# Altium integrated library TI Power Management Switching Regulator Charge Pump (Inductorless).IntLib: 239 symbols (part 13 of 14)
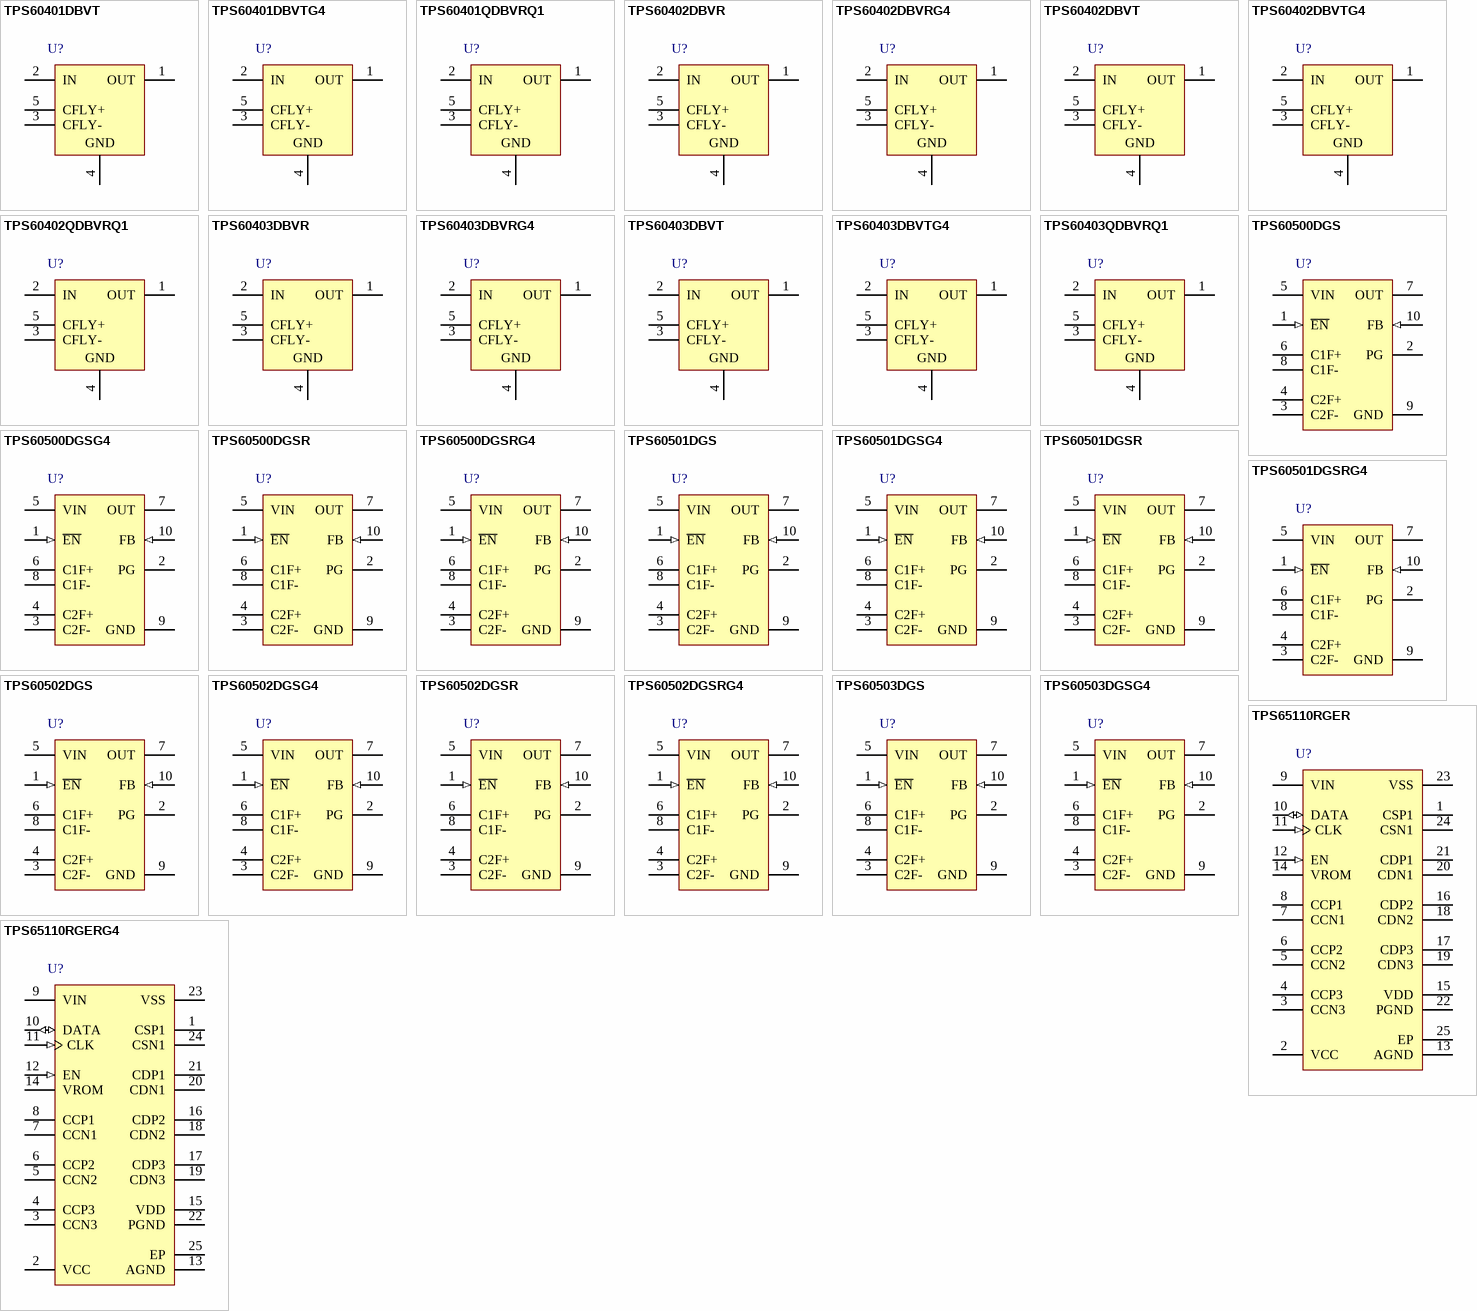
[diagram p19: symbols TPS60401DBVT to TPS65110RGERG4]

## TPS60402DBVT
designator U?
-1.8 to -5.25 V, Inverting Charge Pump Regulator, 60 mA, 1.8 to 5.25 V Input with 2-Cell Alkaline / Nixx Input, -40 to 85 degC, 5-pin SOT23 (DBV5), Green (RoHS & no Sb/Br); Manufacturer: Texas Instruments; PartNumber: TPS60402DBVT; 2-Cell Alkaline/Nixx Input: TRUE; Efficiency(Typ)(%): 99; Iout(Max)(A): 0.06; Iq(Typ)(mA): 0.12; Switching Frequency(Max)(kHz): 70; Topology: Inverting Buck/Boost; Vin(Max)(V): 5.25; Vin(Min)(V): 1.8; DatasheetVersion: SLVS324A; PackageVersion: 4073253-4/K; PackageReference: DBV5; PackageDescription: 5-Pin Plastic Small Outline, Body 1.60 × 2.90 mm, Pitch 0.95 mm; Supplier 1: Digi-Key; Supplier Part Number 1: 296-12015-2-ND; Supplier 2: Digi-Key; Supplier Part Number 2: 296-12015-1-ND; Supplier 3: Digi-Key; Supplier Part Number 3: 296-12015-6-ND; Supplier 4: Farnell; Supplier Part Number 4: 8457778; Supplier 5: Farnell; Supplier Part Number 5: 8457778RL; Supplier 6: Newark; Supplier Part Number 6: 77C0630; Supplier 7: Mouser; Supplier Part Number 7: 595-TPS60402DBVT; Eco-Plan: Green (RoHS & no Sb/Br); Vout(Max)(V): -5.25; Vout(Min)(V): -1.8; Mounting Technology: Surface Mount; Code_JEDEC: MO-178; ComponentLink1Description: Manufacturer URL; ComponentLink1URL: http://www.ti.com/; ComponentLink2Description: Datasheet; ComponentLink2URL: http://www.ti.com/general/docs/lit/getliterature.tsp?genericPartNumber=TPS60402&fileType=pdf; ComponentLink3Description: Package Specification; ComponentLink3URL: http://www.ti.com/litv/pdf/mpds018i
footprint TI-DBV5_N (SOT23, 5-Leads, Body 2.9x1.6mm, Pitch 0.95mm, IPC Medium Density)
footprint TI-DBV5_L (SOT23, 5-Leads, Body 2.9x1.6mm, Pitch 0.95mm, IPC High Density)
footprint TI-DBV5_M (SOT23, 5-Leads, Body 2.9x1.6mm, Pitch 0.95mm, IPC Low Density)
pins: 1 OUT (power) "Power output with VO = -VI Bypass OUT to GND with the output filter capacitor CO", 2 IN (power) "Supply input. Connect to an input supply in the 1.6-V to 5.5-V range. Bypass IN to GND with a capacitor that has the same value as the flying capacitor", 3 CFLY- "Negative terminal of the flying capacitor C(fly)", 4 GND (power) "Ground", 5 CFLY+ "Positive terminal of the flying capacitor C(fly)"

## TPS60402DBVTG4
designator U?
-1.8 to -5.25 V, Inverting Charge Pump Regulator, 60 mA, 1.8 to 5.25 V Input with 2-Cell Alkaline / Nixx Input, -40 to 85 degC, 5-pin SOT23 (DBV5), Green (RoHS & no Sb/Br); Manufacturer: Texas Instruments; PartNumber: TPS60402DBVTG4; 2-Cell Alkaline/Nixx Input: TRUE; Efficiency(Typ)(%): 99; Iout(Max)(A): 0.06; Iq(Typ)(mA): 0.12; Switching Frequency(Max)(kHz): 70; Topology: Inverting Buck/Boost; Vin(Max)(V): 5.25; Vin(Min)(V): 1.8; DatasheetVersion: SLVS324A; PackageVersion: 4073253-4/K; PackageReference: DBV5; PackageDescription: 5-Pin Plastic Small Outline, Body 1.60 × 2.90 mm, Pitch 0.95 mm; Supplier 1: Digi-Key; Supplier Part Number 1: TPS60402DBVTG4-ND; Supplier 2: Newark; Supplier Part Number 2: 54K1707; Supplier 3: Mouser; Supplier Part Number 3: 595-TPS60402DBVTG4; Eco-Plan: Green (RoHS & no Sb/Br); Vout(Max)(V): -5.25; Vout(Min)(V): -1.8; Mounting Technology: Surface Mount; Code_JEDEC: MO-178; ComponentLink1Description: Manufacturer URL; ComponentLink1URL: http://www.ti.com/; ComponentLink2Description: Datasheet; ComponentLink2URL: http://www.ti.com/general/docs/lit/getliterature.tsp?genericPartNumber=TPS60402&fileType=pdf; ComponentLink3Description: Package Specification; ComponentLink3URL: http://www.ti.com/litv/pdf/mpds018i
footprint TI-DBV5_N (SOT23, 5-Leads, Body 2.9x1.6mm, Pitch 0.95mm, IPC Medium Density)
footprint TI-DBV5_L (SOT23, 5-Leads, Body 2.9x1.6mm, Pitch 0.95mm, IPC High Density)
footprint TI-DBV5_M (SOT23, 5-Leads, Body 2.9x1.6mm, Pitch 0.95mm, IPC Low Density)
pins: 1 OUT (power) "Power output with VO = -VI Bypass OUT to GND with the output filter capacitor CO", 2 IN (power) "Supply input. Connect to an input supply in the 1.6-V to 5.5-V range. Bypass IN to GND with a capacitor that has the same value as the flying capacitor", 3 CFLY- "Negative terminal of the flying capacitor C(fly)", 4 GND (power) "Ground", 5 CFLY+ "Positive terminal of the flying capacitor C(fly)"

## TPS60402QDBVRQ1
designator U?
-1.8 to -5.25 V, Inverting Charge Pump Regulator, 60 mA, 1.8 to 5.25 V Input, -40 to 125 degC, 5-pin SOT23 (DBV5), Green (RoHS & no Sb/Br); Manufacturer: Texas Instruments; PartNumber: TPS60402QDBVRQ1; Efficiency(Typ)(%): >90; Iout(Max)(A): 0.06; Iq(Typ)(mA): 0.12; Switching Frequency(Max)(kHz): 75; Topology: Inverting Buck/Boost; Vin(Max)(V): 5.25; Vin(Min)(V): 1.8; DatasheetVersion: SGLS246A; PackageVersion: 4073253-4/K; PackageReference: DBV5; PackageDescription: 5-Pin Plastic Small Outline, Body 1.60 × 2.90 mm, Pitch 0.95 mm; Supplier 1: Digi-Key; Supplier Part Number 1: TPS60402QDBVRQ1-ND; Supplier 2: Newark; Supplier Part Number 2: 21J9229; Supplier 3: Mouser; Supplier Part Number 3: 595-TPS60402QDBVRQ1; Eco-Plan: Green (RoHS & no Sb/Br); Vout(Max)(V): -5.25; Vout(Min)(V): -1.8; Mounting Technology: Surface Mount; Code_JEDEC: MO-178; ComponentLink1Description: Manufacturer URL; ComponentLink1URL: http://www.ti.com/; ComponentLink2Description: Datasheet; ComponentLink2URL: http://www.ti.com/general/docs/lit/getliterature.tsp?genericPartNumber=TPS60402-Q1&fileType=pdf; ComponentLink3Description: Package Specification; ComponentLink3URL: http://www.ti.com/litv/pdf/mpds018i
footprint TI-DBV5_N (SOT23, 5-Leads, Body 2.9x1.6mm, Pitch 0.95mm, IPC Medium Density)
footprint TI-DBV5_L (SOT23, 5-Leads, Body 2.9x1.6mm, Pitch 0.95mm, IPC High Density)
footprint TI-DBV5_M (SOT23, 5-Leads, Body 2.9x1.6mm, Pitch 0.95mm, IPC Low Density)
pins: 1 OUT (power) "Power output with VO = -VI Bypass OUT to GND with the output filter capacitor CO.", 2 IN (power) "Supply input. Connect to an input supply in the 1.6-V to 5.5-V range. Bypass IN to GND with a capacitor that has the same value as the flying capacitor.", 3 CFLY- "Negative terminal of the flying capacitor C(fly)", 4 GND (power) "Ground", 5 CFLY+ "Positive terminal of the flying capacitor C(fly)"

## TPS60403DBVR
designator U?
-1.8 to -5.25 V, Inverting Charge Pump Regulator, 60 mA, 1.8 to 5.25 V Input with 2-Cell Alkaline / Nixx Input, -40 to 85 degC, 5-pin SOT23 (DBV5), Green (RoHS & no Sb/Br); Manufacturer: Texas Instruments; PartNumber: TPS60403DBVR; 2-Cell Alkaline/Nixx Input: TRUE; Efficiency(Typ)(%): 99; Iout(Max)(A): 0.06; Iq(Typ)(mA): 0.425; Switching Frequency(Max)(kHz): 300; Topology: Inverting Buck/Boost; Vin(Max)(V): 5.25; Vin(Min)(V): 1.8; DatasheetVersion: SLVS324A; PackageVersion: 4073253-4/K; PackageReference: DBV5; PackageDescription: 5-Pin Plastic Small Outline, Body 1.60 × 2.90 mm, Pitch 0.95 mm; Supplier 1: Digi-Key; Supplier Part Number 1: 296-27005-2-ND; Supplier 2: Digi-Key; Supplier Part Number 2: 296-27005-1-ND; Supplier 3: Digi-Key; Supplier Part Number 3: 296-27005-6-ND; Supplier 4: Newark; Supplier Part Number 4: 77C0631; Supplier 5: Mouser; Supplier Part Number 5: 595-TPS60403DBVR; Eco-Plan: Green (RoHS & no Sb/Br); Vout(Max)(V): -5.25; Vout(Min)(V): -1.8; Mounting Technology: Surface Mount; Code_JEDEC: MO-178; ComponentLink1Description: Manufacturer URL; ComponentLink1URL: http://www.ti.com/; ComponentLink2Description: Datasheet; ComponentLink2URL: http://www.ti.com/general/docs/lit/getliterature.tsp?genericPartNumber=TPS60403&fileType=pdf; ComponentLink3Description: Package Specification; ComponentLink3URL: http://www.ti.com/litv/pdf/mpds018i
footprint TI-DBV5_N (SOT23, 5-Leads, Body 2.9x1.6mm, Pitch 0.95mm, IPC Medium Density)
footprint TI-DBV5_L (SOT23, 5-Leads, Body 2.9x1.6mm, Pitch 0.95mm, IPC High Density)
footprint TI-DBV5_M (SOT23, 5-Leads, Body 2.9x1.6mm, Pitch 0.95mm, IPC Low Density)
pins: 1 OUT (power) "Power output with VO = -VI Bypass OUT to GND with the output filter capacitor CO", 2 IN (power) "Supply input. Connect to an input supply in the 1.6-V to 5.5-V range. Bypass IN to GND with a capacitor that has the same value as the flying capacitor", 3 CFLY- "Negative terminal of the flying capacitor C(fly)", 4 GND (power) "Ground", 5 CFLY+ "Positive terminal of the flying capacitor C(fly)"

## TPS60403DBVRG4
designator U?
-1.8 to -5.25 V, Inverting Charge Pump Regulator, 60 mA, 1.8 to 5.25 V Input with 2-Cell Alkaline / Nixx Input, -40 to 85 degC, 5-pin SOT23 (DBV5), Green (RoHS & no Sb/Br); Manufacturer: Texas Instruments; PartNumber: TPS60403DBVRG4; 2-Cell Alkaline/Nixx Input: TRUE; Efficiency(Typ)(%): 99; Iout(Max)(A): 0.06; Iq(Typ)(mA): 0.425; Switching Frequency(Max)(kHz): 300; Topology: Inverting Buck/Boost; Vin(Max)(V): 5.25; Vin(Min)(V): 1.8; DatasheetVersion: SLVS324A; PackageVersion: 4073253-4/K; PackageReference: DBV5; PackageDescription: 5-Pin Plastic Small Outline, Body 1.60 × 2.90 mm, Pitch 0.95 mm; Supplier 1: Digi-Key; Supplier Part Number 1: TPS60403DBVRG4-ND; Supplier 2: Newark; Supplier Part Number 2: 71J8175; Supplier 3: Mouser; Supplier Part Number 3: 595-TPS60403DBVRG4; Eco-Plan: Green (RoHS & no Sb/Br); Vout(Max)(V): -5.25; Vout(Min)(V): -1.8; Mounting Technology: Surface Mount; Code_JEDEC: MO-178; ComponentLink1Description: Manufacturer URL; ComponentLink1URL: http://www.ti.com/; ComponentLink2Description: Datasheet; ComponentLink2URL: http://www.ti.com/general/docs/lit/getliterature.tsp?genericPartNumber=TPS60403&fileType=pdf; ComponentLink3Description: Package Specification; ComponentLink3URL: http://www.ti.com/litv/pdf/mpds018i
footprint TI-DBV5_N (SOT23, 5-Leads, Body 2.9x1.6mm, Pitch 0.95mm, IPC Medium Density)
footprint TI-DBV5_L (SOT23, 5-Leads, Body 2.9x1.6mm, Pitch 0.95mm, IPC High Density)
footprint TI-DBV5_M (SOT23, 5-Leads, Body 2.9x1.6mm, Pitch 0.95mm, IPC Low Density)
pins: 1 OUT (power) "Power output with VO = -VI Bypass OUT to GND with the output filter capacitor CO", 2 IN (power) "Supply input. Connect to an input supply in the 1.6-V to 5.5-V range. Bypass IN to GND with a capacitor that has the same value as the flying capacitor", 3 CFLY- "Negative terminal of the flying capacitor C(fly)", 4 GND (power) "Ground", 5 CFLY+ "Positive terminal of the flying capacitor C(fly)"

## TPS60403DBVT
designator U?
-1.8 to -5.25 V, Inverting Charge Pump Regulator, 60 mA, 1.8 to 5.25 V Input with 2-Cell Alkaline / Nixx Input, -40 to 85 degC, 5-pin SOT23 (DBV5), Green (RoHS & no Sb/Br); Manufacturer: Texas Instruments; PartNumber: TPS60403DBVT; 2-Cell Alkaline/Nixx Input: TRUE; Efficiency(Typ)(%): 99; Iout(Max)(A): 0.06; Iq(Typ)(mA): 0.425; Switching Frequency(Max)(kHz): 300; Topology: Inverting Buck/Boost; Vin(Max)(V): 5.25; Vin(Min)(V): 1.8; DatasheetVersion: SLVS324A; PackageVersion: 4073253-4/K; PackageReference: DBV5; PackageDescription: 5-Pin Plastic Small Outline, Body 1.60 × 2.90 mm, Pitch 0.95 mm; Supplier 1: Digi-Key; Supplier Part Number 1: 296-13418-2-ND; Supplier 2: Digi-Key; Supplier Part Number 2: 296-13418-1-ND; Supplier 3: Digi-Key; Supplier Part Number 3: 296-13418-6-ND; Supplier 4: Farnell; Supplier Part Number 4: 8457786; Supplier 5: Farnell; Supplier Part Number 5: 8457786RL; Supplier 6: Newark; Supplier Part Number 6: 77C0632; Supplier 7: Mouser; Supplier Part Number 7: 595-TPS60403DBVT; Eco-Plan: Green (RoHS & no Sb/Br); Vout(Max)(V): -5.25; Vout(Min)(V): -1.8; Mounting Technology: Surface Mount; Code_JEDEC: MO-178; ComponentLink1Description: Manufacturer URL; ComponentLink1URL: http://www.ti.com/; ComponentLink2Description: Datasheet; ComponentLink2URL: http://www.ti.com/general/docs/lit/getliterature.tsp?genericPartNumber=TPS60403&fileType=pdf; ComponentLink3Description: Package Specification; ComponentLink3URL: http://www.ti.com/litv/pdf/mpds018i
footprint TI-DBV5_N (SOT23, 5-Leads, Body 2.9x1.6mm, Pitch 0.95mm, IPC Medium Density)
footprint TI-DBV5_L (SOT23, 5-Leads, Body 2.9x1.6mm, Pitch 0.95mm, IPC High Density)
footprint TI-DBV5_M (SOT23, 5-Leads, Body 2.9x1.6mm, Pitch 0.95mm, IPC Low Density)
pins: 1 OUT (power) "Power output with VO = -VI Bypass OUT to GND with the output filter capacitor CO", 2 IN (power) "Supply input. Connect to an input supply in the 1.6-V to 5.5-V range. Bypass IN to GND with a capacitor that has the same value as the flying capacitor", 3 CFLY- "Negative terminal of the flying capacitor C(fly)", 4 GND (power) "Ground", 5 CFLY+ "Positive terminal of the flying capacitor C(fly)"

## TPS60403DBVTG4
designator U?
-1.8 to -5.25 V, Inverting Charge Pump Regulator, 60 mA, 1.8 to 5.25 V Input with 2-Cell Alkaline / Nixx Input, -40 to 85 degC, 5-pin SOT23 (DBV5), Green (RoHS & no Sb/Br); Manufacturer: Texas Instruments; PartNumber: TPS60403DBVTG4; 2-Cell Alkaline/Nixx Input: TRUE; Efficiency(Typ)(%): 99; Iout(Max)(A): 0.06; Iq(Typ)(mA): 0.425; Switching Frequency(Max)(kHz): 300; Topology: Inverting Buck/Boost; Vin(Max)(V): 5.25; Vin(Min)(V): 1.8; DatasheetVersion: SLVS324A; PackageVersion: 4073253-4/K; PackageReference: DBV5; PackageDescription: 5-Pin Plastic Small Outline, Body 1.60 × 2.90 mm, Pitch 0.95 mm; Supplier 1: Digi-Key; Supplier Part Number 1: TPS60403DBVTG4-ND; Supplier 2: Newark; Supplier Part Number 2: 71J8176; Supplier 3: Mouser; Supplier Part Number 3: 595-TPS60403DBVTG4; Eco-Plan: Green (RoHS & no Sb/Br); Vout(Max)(V): -5.25; Vout(Min)(V): -1.8; Mounting Technology: Surface Mount; Code_JEDEC: MO-178; ComponentLink1Description: Manufacturer URL; ComponentLink1URL: http://www.ti.com/; ComponentLink2Description: Datasheet; ComponentLink2URL: http://www.ti.com/general/docs/lit/getliterature.tsp?genericPartNumber=TPS60403&fileType=pdf; ComponentLink3Description: Package Specification; ComponentLink3URL: http://www.ti.com/litv/pdf/mpds018i
footprint TI-DBV5_N (SOT23, 5-Leads, Body 2.9x1.6mm, Pitch 0.95mm, IPC Medium Density)
footprint TI-DBV5_L (SOT23, 5-Leads, Body 2.9x1.6mm, Pitch 0.95mm, IPC High Density)
footprint TI-DBV5_M (SOT23, 5-Leads, Body 2.9x1.6mm, Pitch 0.95mm, IPC Low Density)
pins: 1 OUT (power) "Power output with VO = -VI Bypass OUT to GND with the output filter capacitor CO", 2 IN (power) "Supply input. Connect to an input supply in the 1.6-V to 5.5-V range. Bypass IN to GND with a capacitor that has the same value as the flying capacitor", 3 CFLY- "Negative terminal of the flying capacitor C(fly)", 4 GND (power) "Ground", 5 CFLY+ "Positive terminal of the flying capacitor C(fly)"

## TPS60403QDBVRQ1
designator U?
-1.8 to -5.25 V, Inverting Charge Pump Regulator, 60 mA, 1.8 to 5.25 V Input, -40 to 125 degC, 5-pin SOT23 (DBV5), Green (RoHS & no Sb/Br); Manufacturer: Texas Instruments; PartNumber: TPS60403QDBVRQ1; Efficiency(Typ)(%): >90; Iout(Max)(A): 0.06; Iq(Typ)(mA): 0.425; Switching Frequency(Max)(kHz): 325; Topology: Inverting Buck/Boost; Vin(Max)(V): 5.25; Vin(Min)(V): 1.8; DatasheetVersion: SGLS246A; PackageVersion: 4073253-4/K; PackageReference: DBV5; PackageDescription: 5-Pin Plastic Small Outline, Body 1.60 × 2.90 mm, Pitch 0.95 mm; Supplier 1: Digi-Key; Supplier Part Number 1: 296-18036-2-ND; Supplier 2: Digi-Key; Supplier Part Number 2: 296-18036-1-ND; Supplier 3: Digi-Key; Supplier Part Number 3: 296-18036-6-ND; Supplier 4: Farnell; Supplier Part Number 4: 2075401; Supplier 5: Newark; Supplier Part Number 5: 21J9230; Supplier 6: Mouser; Supplier Part Number 6: 595-TPS60403QDBVRQ1; Eco-Plan: Green (RoHS & no Sb/Br); Vout(Max)(V): -5.25; Vout(Min)(V): -1.8; Mounting Technology: Surface Mount; Code_JEDEC: MO-178; ComponentLink1Description: Manufacturer URL; ComponentLink1URL: http://www.ti.com/; ComponentLink2Description: Datasheet; ComponentLink2URL: http://www.ti.com/general/docs/lit/getliterature.tsp?genericPartNumber=TPS60403-Q1&fileType=pdf; ComponentLink3Description: Package Specification; ComponentLink3URL: http://www.ti.com/litv/pdf/mpds018i
footprint TI-DBV5_N (SOT23, 5-Leads, Body 2.9x1.6mm, Pitch 0.95mm, IPC Medium Density)
footprint TI-DBV5_L (SOT23, 5-Leads, Body 2.9x1.6mm, Pitch 0.95mm, IPC High Density)
footprint TI-DBV5_M (SOT23, 5-Leads, Body 2.9x1.6mm, Pitch 0.95mm, IPC Low Density)
pins: 1 OUT (power) "Power output with VO = -VI Bypass OUT to GND with the output filter capacitor CO.", 2 IN (power) "Supply input. Connect to an input supply in the 1.6-V to 5.5-V range. Bypass IN to GND with a capacitor that has the same value as the flying capacitor.", 3 CFLY- "Negative terminal of the flying capacitor C(fly)", 4 GND (power) "Ground", 5 CFLY+ "Positive terminal of the flying capacitor C(fly)"

## TPS60500DGS
designator U?
0.8 to 3.3 V, Step-Down Charge Pump Regulator, 250 mA, 1.8 to 6.5 V Input with 2-Cell Alkaline / Nixx Input, -40 to 85 degC, 10-pin SOP (DGS10), Green (RoHS & no Sb/Br); Manufacturer: Texas Instruments; PartNumber: TPS60500DGS; 2-Cell Alkaline/Nixx Input: TRUE; Iout(Max)(A): 0.25; Iq(Typ)(mA): 0.04; Switching Frequency(Max)(kHz): 1200; Topology: Buck; Vin(Max)(V): 6.5; Vin(Min)(V): 1.8; Vout(Max)(V): 3.3; Vout(Min)(V): 0.8; DatasheetVersion: SLVS391B; PackageVersion: 4073225-6/I; PackageReference: DGS10; PackageDescription: 10-Pin Plastic Small Outline, Body 3.00 x 3.00 mm, Pitch 0.50 mm; Supplier 1: Digi-Key; Supplier Part Number 1: 296-12513-5-ND; Supplier 2: Newark; Supplier Part Number 2: 77C0633; Supplier 3: Mouser; Supplier Part Number 3: 595-TPS60500DGS; Eco-Plan: Green (RoHS & no Sb/Br); Mounting Technology: Surface Mount; Code_JEDEC: MO-153; ComponentLink1Description: Manufacturer URL; ComponentLink1URL: http://www.ti.com/; ComponentLink2Description: Datasheet; ComponentLink2URL: http://www.ti.com/general/docs/lit/getliterature.tsp?genericPartNumber=TPS60500&fileType=pdf; ComponentLink3Description: Package Specification; ComponentLink3URL: http://www.ti.com/litv/pdf/mpds373
footprint TI-DGS10_N (SOP, 10-Leads, Body 3x3mm, Pitch 0.5mm, IPC Medium Density)
footprint TI-DGS10_L (SOP, 10-Leads, Body 3x3mm, Pitch 0.5mm, IPC High Density)
footprint TI-DGS10_M (SOP, 10-Leads, Body 3x3mm, Pitch 0.5mm, IPC Low Density)
pins: 1 ~{EN} (in) "Device-enable Input. - E\N\ = High disables the device. Output and input are isolated in shutdown mode. - E\N\ = Low enables the device.", 2 PG (oc) "Open drain power good detector output. As soon as the voltage on OUT reaches about 97% of its nominal value this pin goes high.", 3 C2F- "Negative terminal of the flying capacitor C2F", 4 C2F+ "Positive terminal of the flying capacitor C2F", 5 VIN (power) "Supply Input. Connect to an input supply in the 1.8-V to 6.5-V range.", 6 C1F+ "Positive terminal of the flying capacitor C1F", 7 OUT (power) "Regulated 3.3 V, 1.8 V, 1.5 V, or adjustable power output Bypass OUT to GND with the output filter capacitor Co.", 8 C1F- "Negative terminal of the flying capacitor C1F", 9 GND (power) "Ground", 10 FB (in) "TPS60500: connect via voltage divider to VO TPS60501 to TPS60503: connect directly to VO"

## TPS60500DGSG4
designator U?
0.8 to 3.3 V, Step-Down Charge Pump Regulator, 250 mA, 1.8 to 6.5 V Input with 2-Cell Alkaline / Nixx Input, -40 to 85 degC, 10-pin SOP (DGS10), Green (RoHS & no Sb/Br); Manufacturer: Texas Instruments; PartNumber: TPS60500DGSG4; 2-Cell Alkaline/Nixx Input: TRUE; Iout(Max)(A): 0.25; Iq(Typ)(mA): 0.04; Switching Frequency(Max)(kHz): 1200; Topology: Buck; Vin(Max)(V): 6.5; Vin(Min)(V): 1.8; Vout(Max)(V): 3.3; Vout(Min)(V): 0.8; DatasheetVersion: SLVS391B; PackageVersion: 4073225-6/I; PackageReference: DGS10; PackageDescription: 10-Pin Plastic Small Outline, Body 3.00 x 3.00 mm, Pitch 0.50 mm; Supplier 1: Digi-Key; Supplier Part Number 1: TPS60500DGSG4-ND; Supplier 2: Mouser; Supplier Part Number 2: 595-TPS60500DGSG4; Eco-Plan: Green (RoHS & no Sb/Br); Mounting Technology: Surface Mount; Code_JEDEC: MO-153; ComponentLink1Description: Manufacturer URL; ComponentLink1URL: http://www.ti.com/; ComponentLink2Description: Datasheet; ComponentLink2URL: http://www.ti.com/general/docs/lit/getliterature.tsp?genericPartNumber=TPS60500&fileType=pdf; ComponentLink3Description: Package Specification; ComponentLink3URL: http://www.ti.com/litv/pdf/mpds373
footprint TI-DGS10_N (SOP, 10-Leads, Body 3x3mm, Pitch 0.5mm, IPC Medium Density)
footprint TI-DGS10_L (SOP, 10-Leads, Body 3x3mm, Pitch 0.5mm, IPC High Density)
footprint TI-DGS10_M (SOP, 10-Leads, Body 3x3mm, Pitch 0.5mm, IPC Low Density)
pins: 1 ~{EN} (in) "Device-enable Input. - E\N\ = High disables the device. Output and input are isolated in shutdown mode. - E\N\ = Low enables the device.", 2 PG (oc) "Open drain power good detector output. As soon as the voltage on OUT reaches about 97% of its nominal value this pin goes high.", 3 C2F- "Negative terminal of the flying capacitor C2F", 4 C2F+ "Positive terminal of the flying capacitor C2F", 5 VIN (power) "Supply Input. Connect to an input supply in the 1.8-V to 6.5-V range.", 6 C1F+ "Positive terminal of the flying capacitor C1F", 7 OUT (power) "Regulated 3.3 V, 1.8 V, 1.5 V, or adjustable power output Bypass OUT to GND with the output filter capacitor Co.", 8 C1F- "Negative terminal of the flying capacitor C1F", 9 GND (power) "Ground", 10 FB (in) "TPS60500: connect via voltage divider to VO TPS60501 to TPS60503: connect directly to VO"

## TPS60500DGSR
designator U?
0.8 to 3.3 V, Step-Down Charge Pump Regulator, 250 mA, 1.8 to 6.5 V Input with 2-Cell Alkaline / Nixx Input, -40 to 85 degC, 10-pin SOP (DGS10), Green (RoHS & no Sb/Br); Manufacturer: Texas Instruments; PartNumber: TPS60500DGSR; 2-Cell Alkaline/Nixx Input: TRUE; Iout(Max)(A): 0.25; Iq(Typ)(mA): 0.04; Switching Frequency(Max)(kHz): 1200; Topology: Buck; Vin(Max)(V): 6.5; Vin(Min)(V): 1.8; Vout(Max)(V): 3.3; Vout(Min)(V): 0.8; DatasheetVersion: SLVS391B; PackageVersion: 4073225-6/I; PackageReference: DGS10; PackageDescription: 10-Pin Plastic Small Outline, Body 3.00 x 3.00 mm, Pitch 0.50 mm; Supplier 1: Digi-Key; Supplier Part Number 1: 296-17015-2-ND; Supplier 2: Digi-Key; Supplier Part Number 2: 296-17015-1-ND; Supplier 3: Digi-Key; Supplier Part Number 3: 296-17015-6-ND; Supplier 4: Farnell; Supplier Part Number 4: 2112614; Supplier 5: Newark; Supplier Part Number 5: 77C0634; Supplier 6: Mouser; Supplier Part Number 6: 595-TPS60500DGSR; Eco-Plan: Green (RoHS & no Sb/Br); Mounting Technology: Surface Mount; Code_JEDEC: MO-153; ComponentLink1Description: Manufacturer URL; ComponentLink1URL: http://www.ti.com/; ComponentLink2Description: Datasheet; ComponentLink2URL: http://www.ti.com/general/docs/lit/getliterature.tsp?genericPartNumber=TPS60500&fileType=pdf; ComponentLink3Description: Package Specification; ComponentLink3URL: http://www.ti.com/litv/pdf/mpds373
footprint TI-DGS10_N (SOP, 10-Leads, Body 3x3mm, Pitch 0.5mm, IPC Medium Density)
footprint TI-DGS10_L (SOP, 10-Leads, Body 3x3mm, Pitch 0.5mm, IPC High Density)
footprint TI-DGS10_M (SOP, 10-Leads, Body 3x3mm, Pitch 0.5mm, IPC Low Density)
pins: 1 ~{EN} (in) "Device-enable Input. - E\N\ = High disables the device. Output and input are isolated in shutdown mode. - E\N\ = Low enables the device.", 2 PG (oc) "Open drain power good detector output. As soon as the voltage on OUT reaches about 97% of its nominal value this pin goes high.", 3 C2F- "Negative terminal of the flying capacitor C2F", 4 C2F+ "Positive terminal of the flying capacitor C2F", 5 VIN (power) "Supply Input. Connect to an input supply in the 1.8-V to 6.5-V range.", 6 C1F+ "Positive terminal of the flying capacitor C1F", 7 OUT (power) "Regulated 3.3 V, 1.8 V, 1.5 V, or adjustable power output Bypass OUT to GND with the output filter capacitor Co.", 8 C1F- "Negative terminal of the flying capacitor C1F", 9 GND (power) "Ground", 10 FB (in) "TPS60500: connect via voltage divider to VO TPS60501 to TPS60503: connect directly to VO"

## TPS60500DGSRG4
designator U?
0.8 to 3.3 V, Step-Down Charge Pump Regulator, 250 mA, 1.8 to 6.5 V Input with 2-Cell Alkaline / Nixx Input, -40 to 85 degC, 10-pin SOP (DGS10), Green (RoHS & no Sb/Br); Manufacturer: Texas Instruments; PartNumber: TPS60500DGSRG4; 2-Cell Alkaline/Nixx Input: TRUE; Iout(Max)(A): 0.25; Iq(Typ)(mA): 0.04; Switching Frequency(Max)(kHz): 1200; Topology: Buck; Vin(Max)(V): 6.5; Vin(Min)(V): 1.8; Vout(Max)(V): 3.3; Vout(Min)(V): 0.8; DatasheetVersion: SLVS391B; PackageVersion: 4073225-6/I; PackageReference: DGS10; PackageDescription: 10-Pin Plastic Small Outline, Body 3.00 x 3.00 mm, Pitch 0.50 mm; Supplier 1: Digi-Key; Supplier Part Number 1: TPS60500DGSRG4-ND; Supplier 2: Newark; Supplier Part Number 2: 24K6007; Supplier 3: Mouser; Supplier Part Number 3: 595-TPS60500DGSRG4; Eco-Plan: Green (RoHS & no Sb/Br); Mounting Technology: Surface Mount; Code_JEDEC: MO-153; ComponentLink1Description: Manufacturer URL; ComponentLink1URL: http://www.ti.com/; ComponentLink2Description: Datasheet; ComponentLink2URL: http://www.ti.com/general/docs/lit/getliterature.tsp?genericPartNumber=TPS60500&fileType=pdf; ComponentLink3Description: Package Specification; ComponentLink3URL: http://www.ti.com/litv/pdf/mpds373
footprint TI-DGS10_N (SOP, 10-Leads, Body 3x3mm, Pitch 0.5mm, IPC Medium Density)
footprint TI-DGS10_L (SOP, 10-Leads, Body 3x3mm, Pitch 0.5mm, IPC High Density)
footprint TI-DGS10_M (SOP, 10-Leads, Body 3x3mm, Pitch 0.5mm, IPC Low Density)
pins: 1 ~{EN} (in) "Device-enable Input. - E\N\ = High disables the device. Output and input are isolated in shutdown mode. - E\N\ = Low enables the device.", 2 PG (oc) "Open drain power good detector output. As soon as the voltage on OUT reaches about 97% of its nominal value this pin goes high.", 3 C2F- "Negative terminal of the flying capacitor C2F", 4 C2F+ "Positive terminal of the flying capacitor C2F", 5 VIN (power) "Supply Input. Connect to an input supply in the 1.8-V to 6.5-V range.", 6 C1F+ "Positive terminal of the flying capacitor C1F", 7 OUT (power) "Regulated 3.3 V, 1.8 V, 1.5 V, or adjustable power output Bypass OUT to GND with the output filter capacitor Co.", 8 C1F- "Negative terminal of the flying capacitor C1F", 9 GND (power) "Ground", 10 FB (in) "TPS60500: connect via voltage divider to VO TPS60501 to TPS60503: connect directly to VO"

## TPS60501DGS
designator U?
3.3 V, Step-Down Charge Pump Regulator, 250 mA, 4.3 to 6.5 V Input with 2-Cell Alkaline / Nixx Input, -40 to 85 degC, 10-pin SOP (DGS10), Green (RoHS & no Sb/Br); Manufacturer: Texas Instruments; PartNumber: TPS60501DGS; 2-Cell Alkaline/Nixx Input: TRUE; Efficiency(Typ)(%): 90; Iout(Max)(A): 0.25; Iq(Typ)(mA): 0.04; Preset Vout(V): 3.3; Switching Frequency(Max)(kHz): 1200; Topology: Buck; Vin(Max)(V): 6.5; Vin(Min)(V): 1.8; DatasheetVersion: SLVS391B; PackageVersion: 4073225-6/I; PackageReference: DGS10; PackageDescription: 10-Pin Plastic Small Outline, Body 3.00 x 3.00 mm, Pitch 0.50 mm; Supplier 1: Digi-Key; Supplier Part Number 1: 296-12514-5-ND; Supplier 2: Newark; Supplier Part Number 2: 77C0636; Supplier 3: Mouser; Supplier Part Number 3: 595-TPS60501DGS; Eco-Plan: Green (RoHS & no Sb/Br); Vout(Max)(V): 3.3; Vout(Min)(V): 3.3; Mounting Technology: Surface Mount; Code_JEDEC: MO-153; ComponentLink1Description: Manufacturer URL; ComponentLink1URL: http://www.ti.com/; ComponentLink2Description: Datasheet; ComponentLink2URL: http://www.ti.com/general/docs/lit/getliterature.tsp?genericPartNumber=TPS60501&fileType=pdf; ComponentLink3Description: Package Specification; ComponentLink3URL: http://www.ti.com/litv/pdf/mpds373
footprint TI-DGS10_N (SOP, 10-Leads, Body 3x3mm, Pitch 0.5mm, IPC Medium Density)
footprint TI-DGS10_L (SOP, 10-Leads, Body 3x3mm, Pitch 0.5mm, IPC High Density)
footprint TI-DGS10_M (SOP, 10-Leads, Body 3x3mm, Pitch 0.5mm, IPC Low Density)
pins: 1 ~{EN} (in) "Device-enable Input. - E\N\ = High disables the device. Output and input are isolated in shutdown mode. - E\N\ = Low enables the device.", 2 PG (oc) "Open drain power good detector output. As soon as the voltage on OUT reaches about 97% of its nominal value this pin goes high.", 3 C2F- "Negative terminal of the flying capacitor C2F", 4 C2F+ "Positive terminal of the flying capacitor C2F", 5 VIN (power) "Supply Input. Connect to an input supply in the 1.8-V to 6.5-V range.", 6 C1F+ "Positive terminal of the flying capacitor C1F", 7 OUT (power) "Regulated 3.3 V, 1.8 V, 1.5 V, or adjustable power output Bypass OUT to GND with the output filter capacitor Co.", 8 C1F- "Negative terminal of the flying capacitor C1F", 9 GND (power) "Ground", 10 FB (in) "TPS60500: connect via voltage divider to VO TPS60501 to TPS60503: connect directly to VO"

## TPS60501DGSG4
designator U?
3.3 V, Step-Down Charge Pump Regulator, 250 mA, 4.3 to 6.5 V Input with 2-Cell Alkaline / Nixx Input, -40 to 85 degC, 10-pin SOP (DGS10), Green (RoHS & no Sb/Br); Manufacturer: Texas Instruments; PartNumber: TPS60501DGSG4; 2-Cell Alkaline/Nixx Input: TRUE; Efficiency(Typ)(%): 90; Iout(Max)(A): 0.25; Iq(Typ)(mA): 0.04; Preset Vout(V): 3.3; Switching Frequency(Max)(kHz): 1200; Topology: Buck; Vin(Max)(V): 6.5; Vin(Min)(V): 1.8; DatasheetVersion: SLVS391B; PackageVersion: 4073225-6/I; PackageReference: DGS10; PackageDescription: 10-Pin Plastic Small Outline, Body 3.00 x 3.00 mm, Pitch 0.50 mm; Supplier 1: Digi-Key; Supplier Part Number 1: TPS60501DGSG4-ND; Supplier 2: Newark; Supplier Part Number 2: 58K6943; Supplier 3: Mouser; Supplier Part Number 3: 595-TPS60501DGSG4; Eco-Plan: Green (RoHS & no Sb/Br); Vout(Max)(V): 3.3; Vout(Min)(V): 3.3; Mounting Technology: Surface Mount; Code_JEDEC: MO-153; ComponentLink1Description: Manufacturer URL; ComponentLink1URL: http://www.ti.com/; ComponentLink2Description: Datasheet; ComponentLink2URL: http://www.ti.com/general/docs/lit/getliterature.tsp?genericPartNumber=TPS60501&fileType=pdf; ComponentLink3Description: Package Specification; ComponentLink3URL: http://www.ti.com/litv/pdf/mpds373
footprint TI-DGS10_N (SOP, 10-Leads, Body 3x3mm, Pitch 0.5mm, IPC Medium Density)
footprint TI-DGS10_L (SOP, 10-Leads, Body 3x3mm, Pitch 0.5mm, IPC High Density)
footprint TI-DGS10_M (SOP, 10-Leads, Body 3x3mm, Pitch 0.5mm, IPC Low Density)
pins: 1 ~{EN} (in) "Device-enable Input. - E\N\ = High disables the device. Output and input are isolated in shutdown mode. - E\N\ = Low enables the device.", 2 PG (oc) "Open drain power good detector output. As soon as the voltage on OUT reaches about 97% of its nominal value this pin goes high.", 3 C2F- "Negative terminal of the flying capacitor C2F", 4 C2F+ "Positive terminal of the flying capacitor C2F", 5 VIN (power) "Supply Input. Connect to an input supply in the 1.8-V to 6.5-V range.", 6 C1F+ "Positive terminal of the flying capacitor C1F", 7 OUT (power) "Regulated 3.3 V, 1.8 V, 1.5 V, or adjustable power output Bypass OUT to GND with the output filter capacitor Co.", 8 C1F- "Negative terminal of the flying capacitor C1F", 9 GND (power) "Ground", 10 FB (in) "TPS60500: connect via voltage divider to VO TPS60501 to TPS60503: connect directly to VO"

## TPS60501DGSR
designator U?
3.3 V, Step-Down Charge Pump Regulator, 250 mA, 4.3 to 6.5 V Input with 2-Cell Alkaline / Nixx Input, -40 to 85 degC, 10-pin SOP (DGS10), Green (RoHS & no Sb/Br); Manufacturer: Texas Instruments; PartNumber: TPS60501DGSR; 2-Cell Alkaline/Nixx Input: TRUE; Efficiency(Typ)(%): 90; Iout(Max)(A): 0.25; Iq(Typ)(mA): 0.04; Preset Vout(V): 3.3; Switching Frequency(Max)(kHz): 1200; Topology: Buck; Vin(Max)(V): 6.5; Vin(Min)(V): 1.8; DatasheetVersion: SLVS391B; PackageVersion: 4073225-6/I; PackageReference: DGS10; PackageDescription: 10-Pin Plastic Small Outline, Body 3.00 x 3.00 mm, Pitch 0.50 mm; Supplier 1: Digi-Key; Supplier Part Number 1: TPS60501DGSR-ND; Supplier 2: Newark; Supplier Part Number 2: 77C0637; Supplier 3: Mouser; Supplier Part Number 3: 595-TPS60501DGSR; Eco-Plan: Green (RoHS & no Sb/Br); Vout(Max)(V): 3.3; Vout(Min)(V): 3.3; Mounting Technology: Surface Mount; Code_JEDEC: MO-153; ComponentLink1Description: Manufacturer URL; ComponentLink1URL: http://www.ti.com/; ComponentLink2Description: Datasheet; ComponentLink2URL: http://www.ti.com/general/docs/lit/getliterature.tsp?genericPartNumber=TPS60501&fileType=pdf; ComponentLink3Description: Package Specification; ComponentLink3URL: http://www.ti.com/litv/pdf/mpds373
footprint TI-DGS10_N (SOP, 10-Leads, Body 3x3mm, Pitch 0.5mm, IPC Medium Density)
footprint TI-DGS10_L (SOP, 10-Leads, Body 3x3mm, Pitch 0.5mm, IPC High Density)
footprint TI-DGS10_M (SOP, 10-Leads, Body 3x3mm, Pitch 0.5mm, IPC Low Density)
pins: 1 ~{EN} (in) "Device-enable Input. - E\N\ = High disables the device. Output and input are isolated in shutdown mode. - E\N\ = Low enables the device.", 2 PG (oc) "Open drain power good detector output. As soon as the voltage on OUT reaches about 97% of its nominal value this pin goes high.", 3 C2F- "Negative terminal of the flying capacitor C2F", 4 C2F+ "Positive terminal of the flying capacitor C2F", 5 VIN (power) "Supply Input. Connect to an input supply in the 1.8-V to 6.5-V range.", 6 C1F+ "Positive terminal of the flying capacitor C1F", 7 OUT (power) "Regulated 3.3 V, 1.8 V, 1.5 V, or adjustable power output Bypass OUT to GND with the output filter capacitor Co.", 8 C1F- "Negative terminal of the flying capacitor C1F", 9 GND (power) "Ground", 10 FB (in) "TPS60500: connect via voltage divider to VO TPS60501 to TPS60503: connect directly to VO"

## TPS60501DGSRG4
designator U?
3.3 V, Step-Down Charge Pump Regulator, 250 mA, 4.3 to 6.5 V Input with 2-Cell Alkaline / Nixx Input, -40 to 85 degC, 10-pin SOP (DGS10), Green (RoHS & no Sb/Br); Manufacturer: Texas Instruments; PartNumber: TPS60501DGSRG4; 2-Cell Alkaline/Nixx Input: TRUE; Efficiency(Typ)(%): 90; Iout(Max)(A): 0.25; Iq(Typ)(mA): 0.04; Preset Vout(V): 3.3; Switching Frequency(Max)(kHz): 1200; Topology: Buck; Vin(Max)(V): 6.5; Vin(Min)(V): 1.8; DatasheetVersion: SLVS391B; PackageVersion: 4073225-6/I; PackageReference: DGS10; PackageDescription: 10-Pin Plastic Small Outline, Body 3.00 x 3.00 mm, Pitch 0.50 mm; Supplier 1: Digi-Key; Supplier Part Number 1: TPS60501DGSRG4-ND; Supplier 2: Newark; Supplier Part Number 2: 58K6944; Supplier 3: Mouser; Supplier Part Number 3: 595-TPS60501DGSRG4; Eco-Plan: Green (RoHS & no Sb/Br); Vout(Max)(V): 3.3; Vout(Min)(V): 3.3; Mounting Technology: Surface Mount; Code_JEDEC: MO-153; ComponentLink1Description: Manufacturer URL; ComponentLink1URL: http://www.ti.com/; ComponentLink2Description: Datasheet; ComponentLink2URL: http://www.ti.com/general/docs/lit/getliterature.tsp?genericPartNumber=TPS60501&fileType=pdf; ComponentLink3Description: Package Specification; ComponentLink3URL: http://www.ti.com/litv/pdf/mpds373
footprint TI-DGS10_N (SOP, 10-Leads, Body 3x3mm, Pitch 0.5mm, IPC Medium Density)
footprint TI-DGS10_L (SOP, 10-Leads, Body 3x3mm, Pitch 0.5mm, IPC High Density)
footprint TI-DGS10_M (SOP, 10-Leads, Body 3x3mm, Pitch 0.5mm, IPC Low Density)
pins: 1 ~{EN} (in) "Device-enable Input. - E\N\ = High disables the device. Output and input are isolated in shutdown mode. - E\N\ = Low enables the device.", 2 PG (oc) "Open drain power good detector output. As soon as the voltage on OUT reaches about 97% of its nominal value this pin goes high.", 3 C2F- "Negative terminal of the flying capacitor C2F", 4 C2F+ "Positive terminal of the flying capacitor C2F", 5 VIN (power) "Supply Input. Connect to an input supply in the 1.8-V to 6.5-V range.", 6 C1F+ "Positive terminal of the flying capacitor C1F", 7 OUT (power) "Regulated 3.3 V, 1.8 V, 1.5 V, or adjustable power output Bypass OUT to GND with the output filter capacitor Co.", 8 C1F- "Negative terminal of the flying capacitor C1F", 9 GND (power) "Ground", 10 FB (in) "TPS60500: connect via voltage divider to VO TPS60501 to TPS60503: connect directly to VO"

## TPS60502DGS
designator U?
1.8 V, Step-Down Charge Pump Regulator, 250 mA, 2.8 to 6.5 V Input with 2-Cell Alkaline / Nixx Input, -40 to 85 degC, 10-pin SOP (DGS10), Green (RoHS & no Sb/Br); Manufacturer: Texas Instruments; PartNumber: TPS60502DGS; 2-Cell Alkaline/Nixx Input: TRUE; Efficiency(Typ)(%): 90; Iout(Max)(A): 0.25; Iq(Typ)(mA): 0.04; Preset Vout(V): 1.8; Switching Frequency(Max)(kHz): 1200; Topology: Buck; Vin(Max)(V): 6.5; DatasheetVersion: SLVS391B; PackageVersion: 4073225-6/I; PackageReference: DGS10; PackageDescription: 10-Pin Plastic Small Outline, Body 3.00 x 3.00 mm, Pitch 0.50 mm; Supplier 1: Digi-Key; Supplier Part Number 1: 296-12515-5-ND; Supplier 2: Farnell; Supplier Part Number 2: 1461012; Supplier 3: Newark; Supplier Part Number 3: 77C0638; Supplier 4: Mouser; Supplier Part Number 4: 595-TPS60502DGS; Eco-Plan: Green (RoHS & no Sb/Br); Vin(Min)(V): 1.8; Vout(Max)(V): 1.8; Vout(Min)(V): 1.8; Mounting Technology: Surface Mount; Code_JEDEC: MO-153; ComponentLink1Description: Manufacturer URL; ComponentLink1URL: http://www.ti.com/; ComponentLink2Description: Datasheet; ComponentLink2URL: http://www.ti.com/general/docs/lit/getliterature.tsp?genericPartNumber=TPS60502&fileType=pdf; ComponentLink3Description: Package Specification; ComponentLink3URL: http://www.ti.com/litv/pdf/mpds373
footprint TI-DGS10_N (SOP, 10-Leads, Body 3x3mm, Pitch 0.5mm, IPC Medium Density)
footprint TI-DGS10_L (SOP, 10-Leads, Body 3x3mm, Pitch 0.5mm, IPC High Density)
footprint TI-DGS10_M (SOP, 10-Leads, Body 3x3mm, Pitch 0.5mm, IPC Low Density)
pins: 1 ~{EN} (in) "Device-enable Input. E\N\ = High disables the device. Output and input are isolated in shutdown mode. E\N\ = Low enables the device.", 2 PG (oc) "Open drain power good detector output. As soon as the voltage on OUT reaches about 97% of its nominal value this pin goes high.", 3 C2F- "Negative terminal of the flying capacitor C2F", 4 C2F+ "Positive terminal of the flying capacitor C2F", 5 VIN (power) "Supply Input. Connect to an input supply in the 1.8-V to 6.5-V range.", 6 C1F+ "Positive terminal of the flying capacitor C1F", 7 OUT (power) "Regulated 3.3 V, 1.8 V, 1.5 V, or adjustable power output. Bypass OUT to GND with the output filter capacitor C0.", 8 C1F- "Negative terminal of the flying capacitor C1F", 9 GND (power) "Ground", 10 FB (in) "TPS60500: connect via voltage divider to VO. TPS60501 to TPS60503: connect directly to VO."

## TPS60502DGSG4
designator U?
1.8 V, Step-Down Charge Pump Regulator, 250 mA, 2.8 to 6.5 V Input with 2-Cell Alkaline / Nixx Input, -40 to 85 degC, 10-pin SOP (DGS10), Green (RoHS & no Sb/Br); Manufacturer: Texas Instruments; PartNumber: TPS60502DGSG4; 2-Cell Alkaline/Nixx Input: TRUE; Efficiency(Typ)(%): 90; Iout(Max)(A): 0.25; Iq(Typ)(mA): 0.04; Preset Vout(V): 1.8; Switching Frequency(Max)(kHz): 1200; Topology: Buck; Vin(Max)(V): 6.5; DatasheetVersion: SLVS391B; PackageVersion: 4073225-6/I; PackageReference: DGS10; PackageDescription: 10-Pin Plastic Small Outline, Body 3.00 x 3.00 mm, Pitch 0.50 mm; Supplier 1: Digi-Key; Supplier Part Number 1: TPS60502DGSG4-ND; Supplier 2: Mouser; Supplier Part Number 2: 595-TPS60502DGSG4; Eco-Plan: Green (RoHS & no Sb/Br); Vin(Min)(V): 1.8; Vout(Max)(V): 1.8; Vout(Min)(V): 1.8; Mounting Technology: Surface Mount; Code_JEDEC: MO-153; ComponentLink1Description: Manufacturer URL; ComponentLink1URL: http://www.ti.com/; ComponentLink2Description: Datasheet; ComponentLink2URL: http://www.ti.com/general/docs/lit/getliterature.tsp?genericPartNumber=TPS60502&fileType=pdf; ComponentLink3Description: Package Specification; ComponentLink3URL: http://www.ti.com/litv/pdf/mpds373
footprint TI-DGS10_N (SOP, 10-Leads, Body 3x3mm, Pitch 0.5mm, IPC Medium Density)
footprint TI-DGS10_L (SOP, 10-Leads, Body 3x3mm, Pitch 0.5mm, IPC High Density)
footprint TI-DGS10_M (SOP, 10-Leads, Body 3x3mm, Pitch 0.5mm, IPC Low Density)
pins: 1 ~{EN} (in) "Device-enable Input. E\N\ = High disables the device. Output and input are isolated in shutdown mode. E\N\ = Low enables the device.", 2 PG (oc) "Open drain power good detector output. As soon as the voltage on OUT reaches about 97% of its nominal value this pin goes high.", 3 C2F- "Negative terminal of the flying capacitor C2F", 4 C2F+ "Positive terminal of the flying capacitor C2F", 5 VIN (power) "Supply Input. Connect to an input supply in the 1.8-V to 6.5-V range.", 6 C1F+ "Positive terminal of the flying capacitor C1F", 7 OUT (power) "Regulated 3.3 V, 1.8 V, 1.5 V, or adjustable power output. Bypass OUT to GND with the output filter capacitor C0.", 8 C1F- "Negative terminal of the flying capacitor C1F", 9 GND (power) "Ground", 10 FB (in) "TPS60500: connect via voltage divider to VO. TPS60501 to TPS60503: connect directly to VO."

## TPS60502DGSR
designator U?
1.8 V, Step-Down Charge Pump Regulator, 250 mA, 2.8 to 6.5 V Input with 2-Cell Alkaline / Nixx Input, -40 to 85 degC, 10-pin SOP (DGS10), Green (RoHS & no Sb/Br); Manufacturer: Texas Instruments; PartNumber: TPS60502DGSR; 2-Cell Alkaline/Nixx Input: TRUE; Efficiency(Typ)(%): 90; Iout(Max)(A): 0.25; Iq(Typ)(mA): 0.04; Preset Vout(V): 1.8; Switching Frequency(Max)(kHz): 1200; Topology: Buck; Vin(Max)(V): 6.5; DatasheetVersion: SLVS391B; PackageVersion: 4073225-6/I; PackageReference: DGS10; PackageDescription: 10-Pin Plastic Small Outline, Body 3.00 x 3.00 mm, Pitch 0.50 mm; Supplier 1: Digi-Key; Supplier Part Number 1: TPS60502DGSR-ND; Supplier 2: Mouser; Supplier Part Number 2: 595-TPS60502DGSR; Eco-Plan: Green (RoHS & no Sb/Br); Vin(Min)(V): 1.8; Vout(Max)(V): 1.8; Vout(Min)(V): 1.8; Mounting Technology: Surface Mount; Code_JEDEC: MO-153; ComponentLink1Description: Manufacturer URL; ComponentLink1URL: http://www.ti.com/; ComponentLink2Description: Datasheet; ComponentLink2URL: http://www.ti.com/general/docs/lit/getliterature.tsp?genericPartNumber=TPS60502&fileType=pdf; ComponentLink3Description: Package Specification; ComponentLink3URL: http://www.ti.com/litv/pdf/mpds373
footprint TI-DGS10_N (SOP, 10-Leads, Body 3x3mm, Pitch 0.5mm, IPC Medium Density)
footprint TI-DGS10_L (SOP, 10-Leads, Body 3x3mm, Pitch 0.5mm, IPC High Density)
footprint TI-DGS10_M (SOP, 10-Leads, Body 3x3mm, Pitch 0.5mm, IPC Low Density)
pins: 1 ~{EN} (in) "Device-enable Input. E\N\ = High disables the device. Output and input are isolated in shutdown mode. E\N\ = Low enables the device.", 2 PG (oc) "Open drain power good detector output. As soon as the voltage on OUT reaches about 97% of its nominal value this pin goes high.", 3 C2F- "Negative terminal of the flying capacitor C2F", 4 C2F+ "Positive terminal of the flying capacitor C2F", 5 VIN (power) "Supply Input. Connect to an input supply in the 1.8-V to 6.5-V range.", 6 C1F+ "Positive terminal of the flying capacitor C1F", 7 OUT (power) "Regulated 3.3 V, 1.8 V, 1.5 V, or adjustable power output. Bypass OUT to GND with the output filter capacitor C0.", 8 C1F- "Negative terminal of the flying capacitor C1F", 9 GND (power) "Ground", 10 FB (in) "TPS60500: connect via voltage divider to VO. TPS60501 to TPS60503: connect directly to VO."

## TPS60502DGSRG4
designator U?
1.8 V, Step-Down Charge Pump Regulator, 250 mA, 2.8 to 6.5 V Input with 2-Cell Alkaline / Nixx Input, -40 to 85 degC, 10-pin SOP (DGS10), Green (RoHS & no Sb/Br); Manufacturer: Texas Instruments; PartNumber: TPS60502DGSRG4; 2-Cell Alkaline/Nixx Input: TRUE; Efficiency(Typ)(%): 90; Iout(Max)(A): 0.25; Iq(Typ)(mA): 0.04; Preset Vout(V): 1.8; Switching Frequency(Max)(kHz): 1200; Topology: Buck; Vin(Max)(V): 6.5; DatasheetVersion: SLVS391B; PackageVersion: 4073225-6/I; PackageReference: DGS10; PackageDescription: 10-Pin Plastic Small Outline, Body 3.00 x 3.00 mm, Pitch 0.50 mm; Supplier 1: Digi-Key; Supplier Part Number 1: TPS60502DGSRG4-ND; Supplier 2: Mouser; Supplier Part Number 2: 595-TPS60502DGSRG4; Eco-Plan: Green (RoHS & no Sb/Br); Vin(Min)(V): 1.8; Vout(Max)(V): 1.8; Vout(Min)(V): 1.8; Mounting Technology: Surface Mount; Code_JEDEC: MO-153; ComponentLink1Description: Manufacturer URL; ComponentLink1URL: http://www.ti.com/; ComponentLink2Description: Datasheet; ComponentLink2URL: http://www.ti.com/general/docs/lit/getliterature.tsp?genericPartNumber=TPS60502&fileType=pdf; ComponentLink3Description: Package Specification; ComponentLink3URL: http://www.ti.com/litv/pdf/mpds373
footprint TI-DGS10_N (SOP, 10-Leads, Body 3x3mm, Pitch 0.5mm, IPC Medium Density)
footprint TI-DGS10_L (SOP, 10-Leads, Body 3x3mm, Pitch 0.5mm, IPC High Density)
footprint TI-DGS10_M (SOP, 10-Leads, Body 3x3mm, Pitch 0.5mm, IPC Low Density)
pins: 1 ~{EN} (in) "Device-enable Input. E\N\ = High disables the device. Output and input are isolated in shutdown mode. E\N\ = Low enables the device.", 2 PG (oc) "Open drain power good detector output. As soon as the voltage on OUT reaches about 97% of its nominal value this pin goes high.", 3 C2F- "Negative terminal of the flying capacitor C2F", 4 C2F+ "Positive terminal of the flying capacitor C2F", 5 VIN (power) "Supply Input. Connect to an input supply in the 1.8-V to 6.5-V range.", 6 C1F+ "Positive terminal of the flying capacitor C1F", 7 OUT (power) "Regulated 3.3 V, 1.8 V, 1.5 V, or adjustable power output. Bypass OUT to GND with the output filter capacitor C0.", 8 C1F- "Negative terminal of the flying capacitor C1F", 9 GND (power) "Ground", 10 FB (in) "TPS60500: connect via voltage divider to VO. TPS60501 to TPS60503: connect directly to VO."

## TPS60503DGS
designator U?
1.5 V, Step-Down Charge Pump Regulator, 250 mA, 1.8 to 6.5 V Input with 2-Cell Alkaline / Nixx Input, -40 to 85 degC, 10-pin SOP (DGS10), Green (RoHS & no Sb/Br); Manufacturer: Texas Instruments; PartNumber: TPS60503DGS; 2-Cell Alkaline/Nixx Input: TRUE; Efficiency(Typ)(%): 90; Iout(Max)(A): 0.25; Iq(Typ)(mA): 0.04; Preset Vout(V): 1.5; Switching Frequency(Max)(kHz): 1200; Topology: Buck; Vin(Max)(V): 6.5; Vin(Min)(V): 1.8; DatasheetVersion: SLVS391B; PackageVersion: 4073225-6/I; PackageReference: DGS10; PackageDescription: 10-Pin Plastic Small Outline, Body 3.00 x 3.00 mm, Pitch 0.50 mm; Supplier 1: Digi-Key; Supplier Part Number 1: 296-12516-5-ND; Supplier 2: Mouser; Supplier Part Number 2: 595-TPS60503DGS; Eco-Plan: Green (RoHS & no Sb/Br); Vout(Max)(V): 1.5; Vout(Min)(V): 1.5; Mounting Technology: Surface Mount; Code_JEDEC: MO-153; ComponentLink1Description: Manufacturer URL; ComponentLink1URL: http://www.ti.com/; ComponentLink2Description: Datasheet; ComponentLink2URL: http://www.ti.com/general/docs/lit/getliterature.tsp?genericPartNumber=TPS60503&fileType=pdf; ComponentLink3Description: Package Specification; ComponentLink3URL: http://www.ti.com/litv/pdf/mpds373
footprint TI-DGS10_N (SOP, 10-Leads, Body 3x3mm, Pitch 0.5mm, IPC Medium Density)
footprint TI-DGS10_L (SOP, 10-Leads, Body 3x3mm, Pitch 0.5mm, IPC High Density)
footprint TI-DGS10_M (SOP, 10-Leads, Body 3x3mm, Pitch 0.5mm, IPC Low Density)
pins: 1 ~{EN} (in) "Device-enable Input. - E\N\ = High disables the device. Output and input are isolated in shutdown mode. - E\N\ = Low enables the device.", 2 PG (oc) "Open drain power good detector output. As soon as the voltage on OUT reaches about 97% of its nominal value this pin goes high.", 3 C2F- "Negative terminal of the flying capacitor C2F", 4 C2F+ "Positive terminal of the flying capacitor C2F", 5 VIN (power) "Supply Input. Connect to an input supply in the 1.8-V to 6.5-V range.", 6 C1F+ "Positive terminal of the flying capacitor C1F", 7 OUT (power) "Regulated 3.3 V, 1.8 V, 1.5 V, or adjustable power output Bypass OUT to GND with the output filter capacitor Co.", 8 C1F- "Negative terminal of the flying capacitor C1F", 9 GND (power) "Ground", 10 FB (in) "TPS60500: connect via voltage divider to VO TPS60501 to TPS60503: connect directly to VO"

## TPS60503DGSG4
designator U?
1.5 V, Step-Down Charge Pump Regulator, 250 mA, 1.8 to 6.5 V Input with 2-Cell Alkaline / Nixx Input, -40 to 85 degC, 10-pin SOP (DGS10), Green (RoHS & no Sb/Br); Manufacturer: Texas Instruments; PartNumber: TPS60503DGSG4; 2-Cell Alkaline/Nixx Input: TRUE; Efficiency(Typ)(%): 90; Iout(Max)(A): 0.25; Iq(Typ)(mA): 0.04; Preset Vout(V): 1.5; Switching Frequency(Max)(kHz): 1200; Topology: Buck; Vin(Max)(V): 6.5; Vin(Min)(V): 1.8; DatasheetVersion: SLVS391B; PackageVersion: 4073225-6/I; PackageReference: DGS10; PackageDescription: 10-Pin Plastic Small Outline, Body 3.00 x 3.00 mm, Pitch 0.50 mm; Supplier 1: Digi-Key; Supplier Part Number 1: TPS60503DGSG4-ND; Supplier 2: Newark; Supplier Part Number 2: 70K5750; Supplier 3: Mouser; Supplier Part Number 3: 595-TPS60503DGSG4; Eco-Plan: Green (RoHS & no Sb/Br); Vout(Max)(V): 1.5; Vout(Min)(V): 1.5; Mounting Technology: Surface Mount; Code_JEDEC: MO-153; ComponentLink1Description: Manufacturer URL; ComponentLink1URL: http://www.ti.com/; ComponentLink2Description: Datasheet; ComponentLink2URL: http://www.ti.com/general/docs/lit/getliterature.tsp?genericPartNumber=TPS60503&fileType=pdf; ComponentLink3Description: Package Specification; ComponentLink3URL: http://www.ti.com/litv/pdf/mpds373
footprint TI-DGS10_N (SOP, 10-Leads, Body 3x3mm, Pitch 0.5mm, IPC Medium Density)
footprint TI-DGS10_L (SOP, 10-Leads, Body 3x3mm, Pitch 0.5mm, IPC High Density)
footprint TI-DGS10_M (SOP, 10-Leads, Body 3x3mm, Pitch 0.5mm, IPC Low Density)
pins: 1 ~{EN} (in) "Device-enable Input. - E\N\ = High disables the device. Output and input are isolated in shutdown mode. - E\N\ = Low enables the device.", 2 PG (oc) "Open drain power good detector output. As soon as the voltage on OUT reaches about 97% of its nominal value this pin goes high.", 3 C2F- "Negative terminal of the flying capacitor C2F", 4 C2F+ "Positive terminal of the flying capacitor C2F", 5 VIN (power) "Supply Input. Connect to an input supply in the 1.8-V to 6.5-V range.", 6 C1F+ "Positive terminal of the flying capacitor C1F", 7 OUT (power) "Regulated 3.3 V, 1.8 V, 1.5 V, or adjustable power output Bypass OUT to GND with the output filter capacitor Co.", 8 C1F- "Negative terminal of the flying capacitor C1F", 9 GND (power) "Ground", 10 FB (in) "TPS60500: connect via voltage divider to VO TPS60501 to TPS60503: connect directly to VO"